# EAGLE library part REF32XX (library NMR-relaxometry)
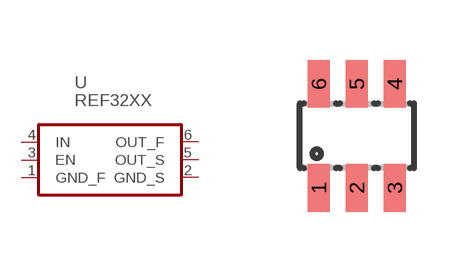
[diagram p12: symbol with the pads of SOT23-6; footprint SOT23-6]

Designator prefix -

## REF32XX  [SOT23-6]
1  GND_F  pwr
2  GND_S  pas
3  EN  in
4  IN  pwr
5  OUT_S  pas
6  OUT_F  out

## Footprint SOT23-6 (pad centres in mm)
smd 0.55 x 1.2: 1 -0.95,-1.3; 2 0,-1.3; 3 0.95,-1.3; 4 0.95,1.3; 5 0,1.3; 6 -0.95,1.3